# EAGLE library part NX3L1T53 (library firefly)
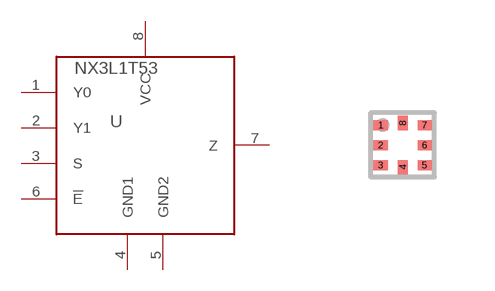
[diagram p7: symbol with the pads of SOT902-2; footprint SOT902-2]

Designator prefix -

## NX3L1T53  [SOT902-2]
1  Y0
2  Y1
3  S
4  GND1
5  GND2
6  !E
7  Z
8  VCC

## Footprint SOT902-2 (pad centres in mm)
smd 0.35 x 0.25: 1 -0.55,0.5; 2 -0.55,0; 3 -0.55,-0.5; 5 0.55,-0.5; 6 0.55,0; 7 0.55,0.5
smd 0.25 x 0.35: 4 0,-0.55; 8 0,0.55